# Altium footprint library SM_SOT89-3.PcbLib: 1 footprints
Each footprint in its own frame and in the unit in brackets; x right, y up, seen from the top. Pads: shape width x height; smd on the part's side, far side on the other; paste and mask are expansions set on the pad; w line width, h text height; cw(c..) or ccw(c..) is an arc to the next point about the centre after c.
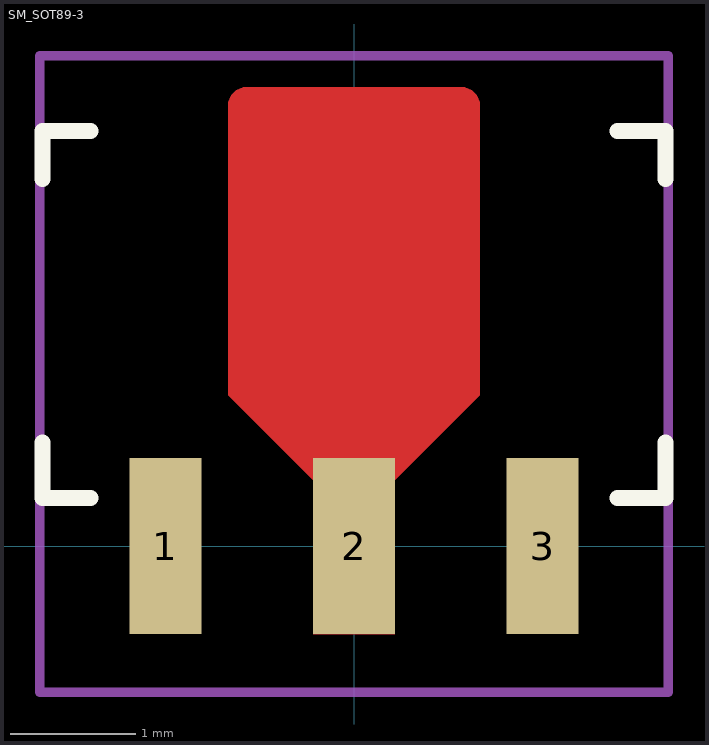
[diagram p0: the footprint, top view; thin cyan lines are the x and y axes]

## SM_SOT89-3 [mm]
height 1.6
pads (3):
  rect 0.57x1.4 smd: 1(-1.5,0) 3(1.5,0)
  rect 0.65x1.4 smd: 2(0,0)
Top Layer:
  region: -0.85,3.65 0.85,3.65 0.88,3.65 0.935,3.627 0.977,3.585 1,3.53 1,3.5 1,1.2 0.325,0.525 0.325,-0.7 -0.325,-0.7 -0.325,0.525 -1,1.2 -1,3.5 -1,3.53 -0.977,3.585 -0.935,3.627 -0.88,3.65
Top Overlay:
  lines w0.127: -2.476,0.826 -2.476,0.381 -2.095,0.381 ; -2.476,2.921 -2.476,3.302 -2.095,3.302 ; 2.095,0.381 2.476,0.381 2.476,0.826 ; 2.095,3.302 2.476,3.302 2.476,2.921
Mechanical 15:
  lines w0.076: -2.5,-1.162 2.5,-1.162 2.5,3.9 -2.5,3.9 -2.5,-1.162
3D body: height 0.44, standoff 0, extent -0.91,3.15 0.91,3.6
3D body: height 0.44, standoff 0, extent 1.29,-0.65 1.77,0.55
3D body: height 0.44, standoff 0, extent -1.77,-0.65 -1.29,0.55
3D body: height 0.44, standoff 0, extent -0.27,-0.65 0.27,0.55
3D body: height 1.6, standoff 0, extent -2.3,0.55 2.3,3.15